# Altium schematic symbol library 14.1 - 天线.SchLib: 2 symbols
Pins are listed as number, name and electrical type; pins without a type are passive.

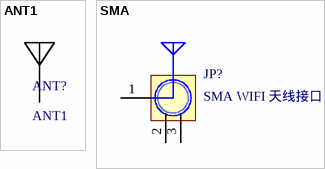
[diagram p0: symbols ANT1 to SMA]

## ANT1
designator ANT?
PCB板载天线; 版权归属: 源创客; BOM名称: PCB板载天线; 学习资源: www.ooocke.com
footprint 2.4GANTF0
footprint 2.4GANTF1
footprint 2.4GANTF2
footprint 2.4GANTF3
footprint 2.4GANTF4
footprint 2.4GANTS0
footprint 2.4GANTS8
footprint 2.4GANTS9
footprint WIFI-ANT
pins: 1

## SMA
designator JP?, comment SMA WIFI 天线接口
SMA-2.4G射频天线接口; 版权归属: 源创客; BOM名称: SMA-2.4G射频天线接口; 学习资源: www.ooocke.com
footprint SMA_FR
footprint SMA-KE (Footprint not found)
footprint SMA-KE-LI (SMA 立式直插射频天线座)
pins: 1 ANT, 2 GND, 3 GND